# Altium schematic symbol library Communication.SchLib: 2 symbols
Pins are listed as number, name and electrical type; pins without a type are passive.

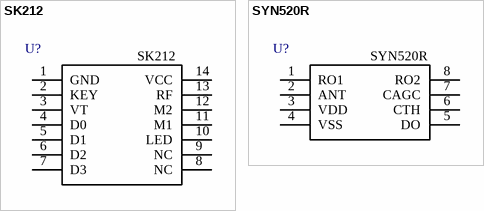
[diagram p0: symbols SK212 to SYN520R]

## SK212
designator U?  Global part number: SK212
Size: SOIC-14; Mount type: SMT
footprint SOIC-14
pins: 1 GND, 2 KEY, 3 VT, 4 D0, 5 D1, 6 D2, 7 D3, 8 NC, 9 NC, 10 LED, 11 M1, 12 M2, 13 RF, 14 VCC

## SYN520R
designator U?  Global part number: SYN520R
Manufacture: SYNOXO; Size: SOIC-8; Mount type: SMT
footprint SOIC-8
pins: 1 RO1, 2 ANT, 3 VDD, 4 VSS, 5 DO, 6 CTH, 7 CAGC, 8 RO2